# Altium footprint library STM32-PILL-PCB.PcbLib: 22 footprints (part 1 of 2)
Each footprint in its own frame and in the unit in brackets; x right, y up, seen from the top. Pads: shape width x height; smd on the part's side, far side on the other; paste and mask are expansions set on the pad; w line width, h text height; cw(c..) or ccw(c..) is an arc to the next point about the centre after c.
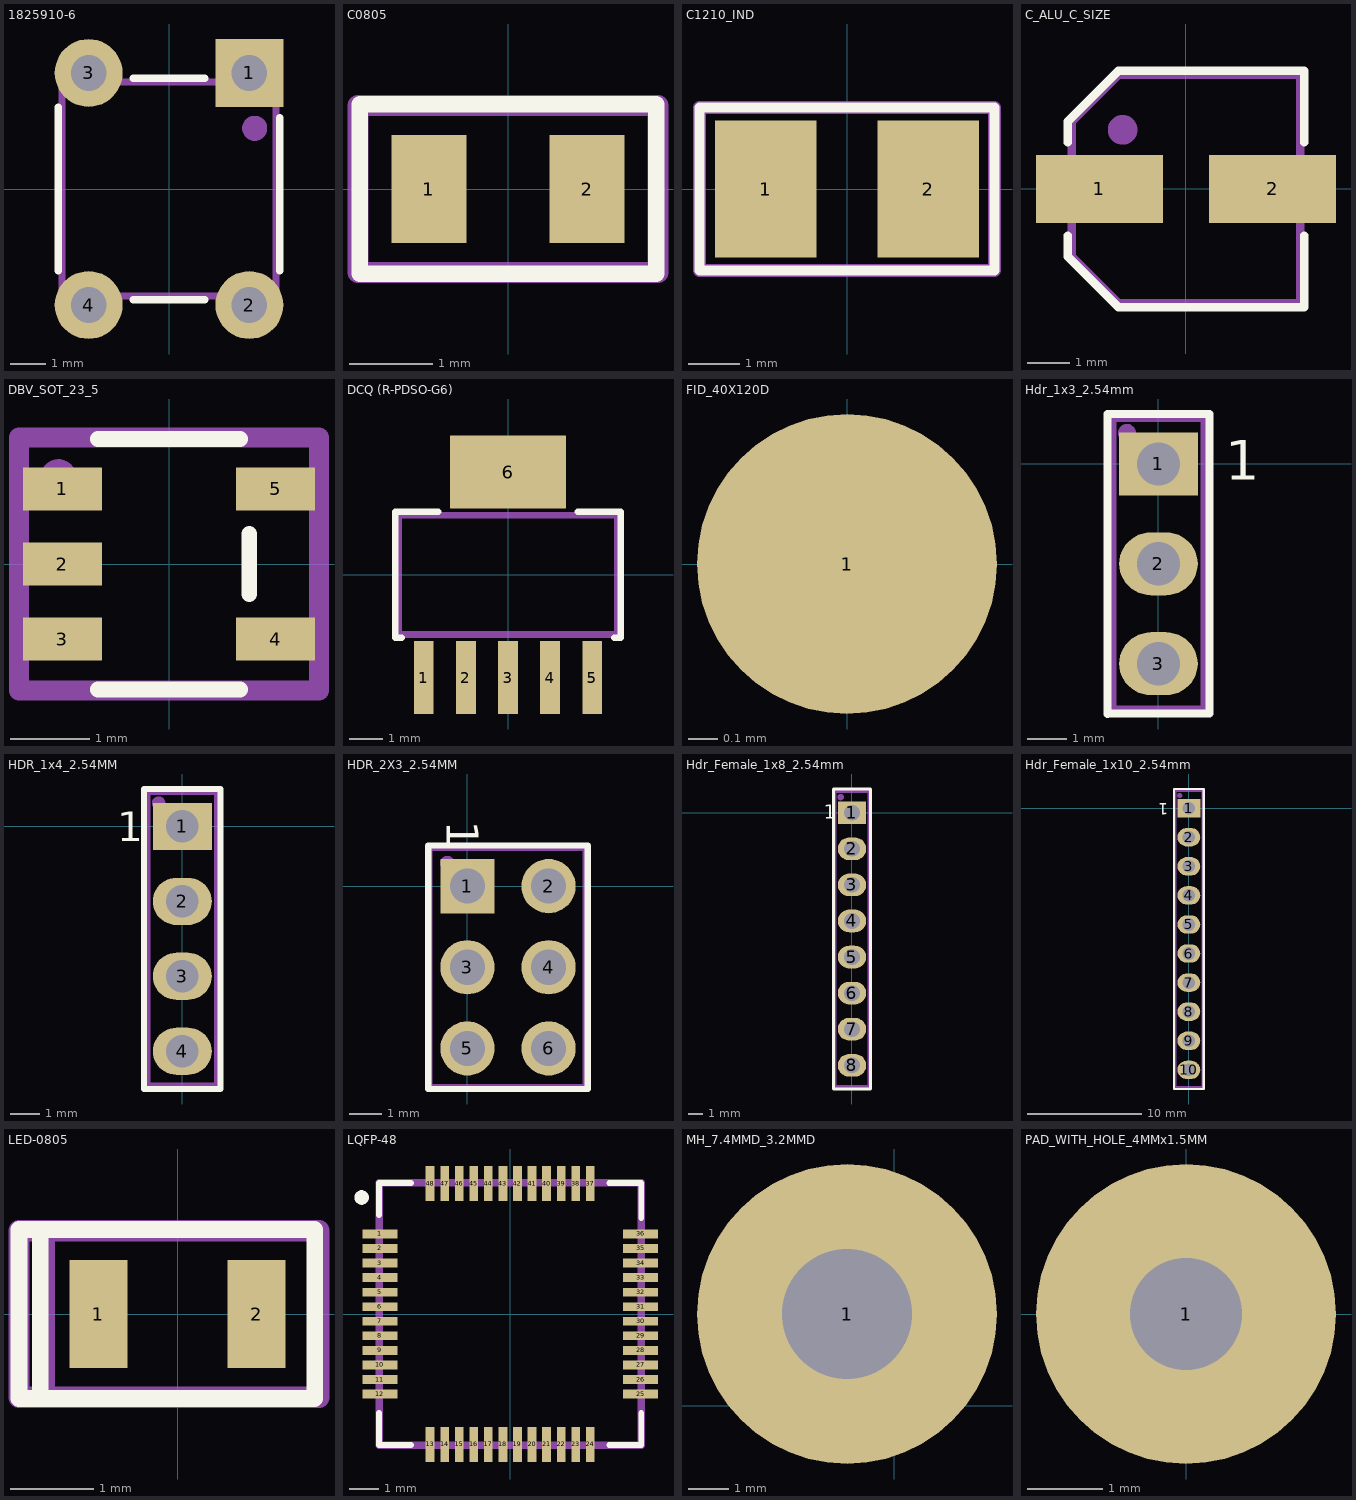
[diagram p0: the footprints below, top view; thin cyan lines are the x and y axes]

## 1825910-6 [mm] "Push-Botton"
pads (4):
  rect 1.9x1.9 hole 1: 1(2.25,3.25)
  round 1.9 hole 1: 2(2.25,-3.25) 3(-2.25,3.25) 4(-2.25,-3.25)
Top Overlay:
  lines w0.2: -3.1,-2.3 -3.1,2.3 ; -1,-3.1 1,-3.1 ; -1,3.1 1,3.1 ; 3.1,-2.3 3.1,2
Mechanical 29:
  circle w0.5: c2.4,1.7 r0.1
  lines w0.2: -3,-3 3,-3 3,3 -3,3 -3,-3
  text ".Designator" at -2.1,-0.9 h1.6
3D body "FSM4JLH(1825910-5).step": height 5, standoff -3.51, extent -2.995,-3.898 2.995,3.9

## C0805 [mm]
pads (2):
  rect 0.9x1.3 smd: 1(-0.95,0) 2(0.95,0)
Top Overlay:
  lines w0.2: -1.778,-1.016 1.778,-1.016 1.778,1.016 -1.778,1.016 -1.778,-1.016
Mechanical 29:
  lines w0.254: -1.8,-1 1.8,-1 1.8,1 -1.8,1 -1.8,-1
  text ".Designator" at -0.75,-0.4 h0.6
3D body "CAPC2012X95N EIA 0805.step": height 0.95, standoff 0, extent -1,-0.6 1,0.6
3D body "CAPC2012X95N EIA 0805.step": height 1.5, standoff 0.55, extent -1,-0.6 1,0.6

## C1210_IND [mm] "INDUCTOR"
pads (2):
  rect 2x2.7 smd: 1(-1.6,0) 2(1.6,0)
Top Overlay:
  lines w0.2: -2.9,-1.6 2.9,-1.6 2.9,1.6 -2.9,1.6 -2.9,-1.6
Mechanical 29:
  lines w0.254: -2.9,-1.6 2.9,-1.6 2.9,1.6 -2.9,1.6 -2.9,-1.6
  text ".Designator" at 0.6,0.5 h1
3D body "C1210.step": height 2.5, standoff 0, extent -1.6,-1.25 1.6,1.25

## C_ALU_C_SIZE [mm] "Creator MM"
pads (2):
  rect 3x1.6 smd: 1(-2.05,0) 2(2.05,0)
Top Overlay:
  lines w0.2: -2.8,-1.1 -2.8,-1.6 -1.6,-2.8 2.8,-2.8 2.8,-1.1 ; -2.8,1.1 -2.8,1.6 -1.6,2.8 2.8,2.8 2.8,1.1
Mechanical 29:
  circle w0.5: c-1.5,1.4 r0.1
  lines w0.2: -2.7,-1.6 -2.7,1.6 -1.6,2.7 2.7,2.7 2.7,-2.7 -1.6,-2.7 -2.7,-1.6
  text ".Designator" at -0.3,1 h1.3
3D body "Alumin capacitor C size.step": height 6.42, standoff 0, extent -3,-2.65 3,2.65

## DBV_SOT_23_5 [mm]
pads (5):
  rect 1x0.55 smd: 1(-1.35,0.95) 2(-1.35,0) 3(-1.35,-0.95) 4(1.35,-0.95) 5(1.35,0.95)
Top Overlay:
  lines w0.2: -0.9,-1.59 0.9,-1.59 ; -0.9,1.585 0.9,1.585 ; 1.016,-0.381 1.016,0.381
Mechanical 29:
  circle w0.254: c-1.4,1.1 r0.1
  lines w0.254: -1.9,-1.6 1.9,-1.6 1.9,1.6 -1.9,1.6 -1.9,-1.6
  text ".Designator" at -0.4,-0.4 h0.6
3D body: height 1.45, standoff 0, extent -1,-1.69 1.116,1.685
3D body: height 0.5, standoff 0, extent -1.651,0.635 -1.016,1.27
3D body: height 0.5, standoff 0, extent -1.651,-1.27 -1.016,-0.635
3D body: height 0.5, standoff 0, extent -1.651,-0.318 -1.016,0.318
3D body: height 0.5, standoff 0, extent 1.143,0.635 1.778,1.27
3D body: height 0.5, standoff 0, extent 1.143,-1.27 1.778,-0.635

## DCQ (R-PDSO-G6) [mm] "Creator MM"
pads (6):
  rect 0.6x2.2 smd: 1(-2.54,-3.1) 2(-1.27,-3.1) 3(0,-3.1) 4(1.27,-3.1) 5(2.54,-3.1)
  rect 3.5x2.2 smd: 6(0,3.1)
Top Overlay:
  lines w0.2: -3.2,-1.9 -3.4,-1.9 -3.4,1.9 -2.1,1.9 ; 2.1,1.9 3.4,1.9 3.4,-1.9 3.2,-1.9
Mechanical 29:
  lines w0.2: -3.3,-1.8 -3.3,1.8 3.3,1.8 3.3,-1.8 -3.3,-1.8
  text ".Designator" at -1.2,-0.7 h1.5
3D body "TPS73701DCQ.step": height 1.8, standoff 0, extent -3.275,-3.63 3.275,3.63

## FID_40X120D [mil]
pads (1):
  round 40 smd paste-40 mask+40: 1(0,0)

## Hdr_1x3_2.54mm [mm] "Creator MM"
pads (3):
  rect 2x1.6 hole 1.1: 1(0,0)
  oval 2x1.6 hole 1.1: 2(0,-2.54) 3(0,-5.08)
Top Overlay:
  lines w0.2: -1.3,-6.36 -1.3,1.27 1.3,1.27 1.3,-6.3 ; -1.3,-6.35 1.3,-6.35
  text "1" at 1.7,-0.4 h1
Mechanical 29:
  circle w0.254: c-0.8,0.79 r0.1
  lines w0.254: -1.2,-6.27 -1.2,1.19 1.2,1.19 1.2,-6.27 -1.2,-6.27
  text ".Designator" at 0.8,-4.7 h1.52
3D body "77311-y18-03_asm.stp": height 8.4, standoff -3.1, extent -1.2,-6.15 1.21,1.07

## HDR_1x4_2.54MM [mm]
pads (4):
  rect 2x1.6 hole 1.1: 1(0,0)
  oval 2x1.6 hole 1.1: 2(0,-2.54) 3(0,-5.08) 4(0,-7.62)
Top Overlay:
  lines w0.2: -1.3,-8.9 1.3,-8.9 1.3,1.27 -1.3,1.27 -1.3,-8.9
  text "1" at -2.2,-0.5 h1
Mechanical 29:
  circle w0.254: c-0.8,0.79 r0.1
  lines w0.254: -1.2,-8.81 -1.2,1.19 1.2,1.19 1.2,-8.81 -1.2,-8.81
  text ".Designator" at 0.8,-6.1 h1.52
3D body "77311-118-04lf.stp": height 8.4, standoff -3.1, extent -1.2,-8.69 1.21,1.07

## HDR_2X3_2.54MM [mm] "Creator MM. Boxed overlay added"
pads (6):
  rect 1.7x1.7 hole 1.1: 1(0,0)
  round 1.7 hole 1.1: 2(2.54,0) 3(0,-2.54) 4(2.54,-2.54) 5(0,-5.08) 6(2.54,-5.08)
Top Overlay:
  lines w0.2: -1.23,-6.35 -1.23,1.27 3.77,1.27 3.77,-6.35 -1.23,-6.35
  text "1" at -0.644,2.04 h1
Mechanical 29:
  circle w0.254: c-0.63,0.72 r0.1
  lines w0.2: -1.2,-6.3 -1.2,1.2 3.7,1.2 3.7,-6.3 -1.2,-6.3
  text ".Designator" at 0.556,-1.16 h1.52
3D body "961206-6404-XX.stp": height 8.01, standoff -3.29, extent -1.23,-6.35 3.77,1.27

## Hdr_Female_1x8_2.54mm [mm] "Creator MM"
pads (8):
  rect 2x1.6 hole 1.1: 1(0,0)
  oval 2x1.6 hole 1.1: 2(0,-2.54) 3(0,-5.08) 4(0,-7.62) 5(0,-10.16) 6(0,-12.7) 7(0,-15.24) 8(0,-17.78)
Top Overlay:
  lines w0.2: -1.3,-19.45 1.3,-19.45 1.3,1.67 -1.3,1.67 -1.3,-19.45
  text "1" at -2,-0.41 h1
Mechanical 29:
  circle w0.254: c-0.8,1.1 r0.1
  lines w0.2: -1.2,-19.28 1.2,-19.28 1.2,1.5 -1.2,1.5 -1.2,-19.28
  text ".Designator" at -0.74,-7.86 h1.52
3D body "female_header_a-bl254-eg-g08d.stp": height 8.5, standoff -3.2, extent -1.25,-19.185 1.25,1.385

## Hdr_Female_1x10_2.54mm [mm] "Creator MM"
pads (10):
  rect 2x1.6 hole 1.1: 1(0,0)
  oval 2x1.6 hole 1.1: 2(0,-2.54) 3(0,-5.08) 4(0,-7.62) 5(0,-10.16) 6(0,-12.7) 7(0,-15.24) 8(0,-17.78) 9(0,-20.32) 10(0,-22.86)
Top Overlay:
  lines w0.2: -1.3,-24.53 -1.3,1.67 1.3,1.67 1.3,-24.53 -1.3,-24.53
  text "1" at -1.8,0.444 h1
Mechanical 29:
  circle w0.254: c-0.8,1.1 r0.1
  lines w0.2: -1.2,-24.36 -1.2,1.5 1.2,1.5 1.2,-24.36 -1.2,-24.36
  text ".Designator" at 0.7,-12.7 h1.52
3D body "female_header_a-bl254-eg-g10d.stp": height 8.5, standoff -3.2, extent -1.25,-24.255 1.25,1.395

## LED-0805 [mm]
pads (2):
  rect 0.7x1.3 smd: 1(-0.95,0) 2(0.95,0)
Top Overlay:
  lines w0.2: -1.651,-1.016 -1.651,1.016 ; -1.651,-1.016 1.651,-1.016 1.651,1.016 -1.651,1.016 ; -1.651,-1.016 -1.905,-1.016 -1.905,1.016 -1.651,1.016
Mechanical 29:
  lines w0.254: -1.6,-1 -1.6,0 -1.6,1 ; -1.905,-1 1.7,-1 1.7,1 -1.905,1 -1.905,-1
  text ".Designator" at -0.4,1.2 h0.8
3D body "R0805.step": height 0.7, standoff 0, extent -1,-0.6 1,0.6

## LQFP-48 [mm] "LQFP, 48-Leads, Body 7.00x7.00mm, Pitch 0.50mm, IPC Medium Density"
height 1.6
pads (48):
  rect 1.2x0.3 smd mask+0.064: 1(-4.475,2.75) 2(-4.475,2.25) 3(-4.475,1.75) 4(-4.475,1.25) 5(-4.475,0.75) 6(-4.475,0.25) 7(-4.475,-0.25) 8(-4.475,-0.75) 9(-4.475,-1.25) 10(-4.475,-1.75) 11(-4.475,-2.25) 12(-4.475,-2.75) 25(4.475,-2.75) 26(4.475,-2.25) 27(4.475,-1.75) 28(4.475,-1.25) 29(4.475,-0.75) 30(4.475,-0.25) 31(4.475,0.25) 32(4.475,0.75) 33(4.475,1.25) 34(4.475,1.75) 35(4.475,2.25) 36(4.475,2.75)
  rect 0.3x1.2 smd mask+0.064: 13(-2.75,-4.475) 14(-2.25,-4.475) 15(-1.75,-4.475) 16(-1.25,-4.475) 17(-0.75,-4.475) 18(-0.25,-4.475) 19(0.25,-4.475) 20(0.75,-4.475) 21(1.25,-4.475) 22(1.75,-4.475) 23(2.25,-4.475) 24(2.75,-4.475) 38(2.25,4.475) 39(1.75,4.475) 40(1.25,4.475) 41(0.75,4.475) 42(0.25,4.475) 43(-0.25,4.475) 44(-0.75,4.475) 45(-1.25,4.475) 46(-1.75,4.475) 47(-2.25,4.475) 48(-2.75,4.475)
  rect 0.3x1.2 smd paste+0 mask+0.064: 37(2.75,4.475)
Top Overlay:
  circle w0.25: c-5.1,4 r0.125
  lines w0.2: -4.5,-3.4 -4.5,-4.5 -3.4,-4.5 ; -4.5,3.4 -4.5,4.5 -3.4,4.5 ; 3.4,-4.5 4.5,-4.5 4.5,-3.4 ; 3.4,4.5 4.5,4.5 4.5,3.3
Mechanical 29:
  lines w0.254: -4.5,-4.5 4.5,-4.5 4.5,4.5 -4.5,4.5 -4.5,-4.5
  text ".Designator" at -0.8,-0.4 h1.52
3D body "LQFP48_Grid_0_5.STEP": height 1.46, standoff -0.14, extent -4.5,-4.5 4.5,4.5

## MH_7.4MMD_3.2MMD [mm]
pads (1):
  round 7.4 / inner round 3.683 / far side round 7.4 hole 3.2 mask+0.025: 1(-1.16,2.26)

## PAD_WITH_HOLE_4MMx1.5MM [mm]
pads (1):
  round 4 hole 1.5: 1(0,0)